# EAGLE library part TEXAS_INSTRUMENTS-ESD_SUPPRESSOR-TPD12S521_DBT_38 (library Module_ICs)
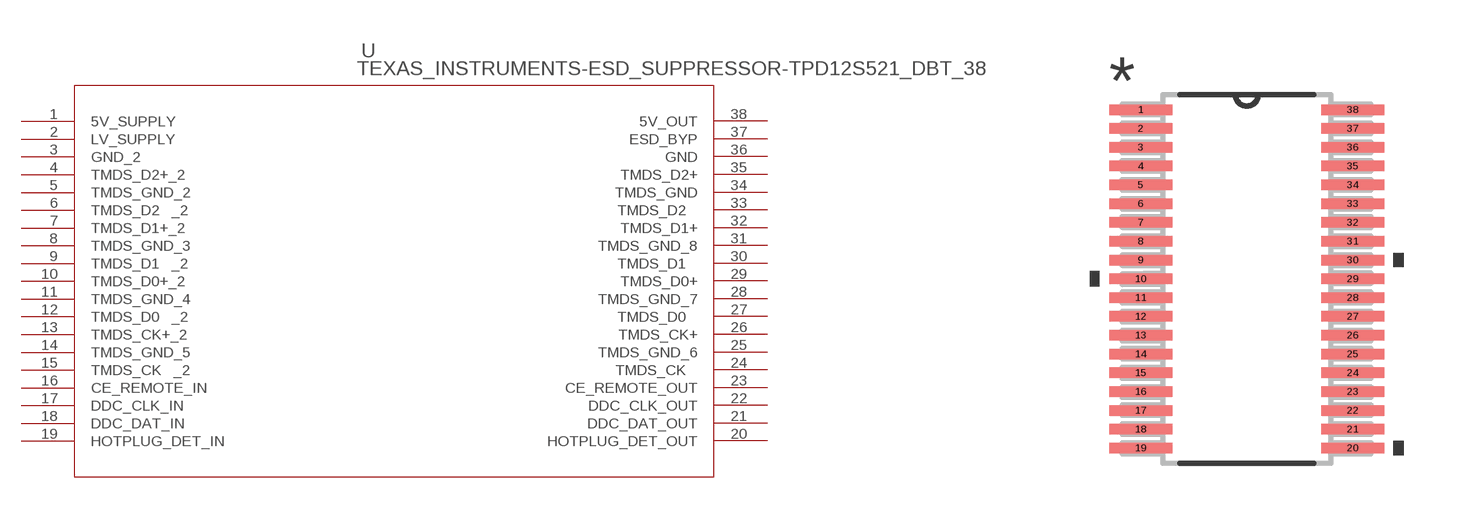
[diagram p33: symbol with the pads of TEXAS_INSTRUMENTS-ESD_SUPPRESSOR-TPD12S521_DBT_38; footprint TEXAS_INSTRUMENTS-ESD_SUPPRESSOR-TPD12S521_DBT_38]

Designator prefix U

## TEXAS_INSTRUMENTS-ESD_SUPPRESSOR-TPD12S521_DBT_38 (DATASHEETURL: httpwww.ti.comlitgpnTPD12S521; FAMILY_NAME: ESD Solution; GENERIC_PART_NUMBER: TPD12S521; INDUSTRY_STD_PKG_TYPE: TSSOP; MANUFACTURER: Texas Instruments; MANUFACTURER_PART_NUMBER: tpd12s521_dbt_38; PACKAGE_DESIGNATOR: DBT; PIN_COUNT: 38; VENDOR: Texas Instruments)  [TEXAS_INSTRUMENTS-ESD_SUPPRESSOR-TPD12S521_DBT_38]
1  5V_SUPPLY  pwr
2  LV_SUPPLY  pwr
3  GND_2  pwr
4  TMDS_D2+_2  pas
5  TMDS_GND_2  pwr
6  TMDS_D2_2  pas
7  TMDS_D1+_2  pas
8  TMDS_GND_3  pwr
9  TMDS_D1_2  pas
10  TMDS_D0+_2  pas
11  TMDS_GND_4  pwr
12  TMDS_D0_2  pas
13  TMDS_CK+_2  pas
14  TMDS_GND_5  pwr
15  TMDS_CK_2  pas
16  CE_REMOTE_IN  pas
17  DDC_CLK_IN  pas
18  DDC_DAT_IN  pas
19  HOTPLUG_DET_IN  pas
20  HOTPLUG_DET_OUT  pas
21  DDC_DAT_OUT  pas
22  DDC_CLK_OUT  pas
23  CE_REMOTE_OUT  pas
24  TMDS_CK  pas
25  TMDS_GND_6  pwr
26  TMDS_CK+  pas
27  TMDS_D0  pas
28  TMDS_GND_7  pwr
29  TMDS_D0+  pas
30  TMDS_D1  pas
31  TMDS_GND_8  pwr
32  TMDS_D1+  pas
33  TMDS_D2  pas
34  TMDS_GND  pwr
35  TMDS_D2+  pas
36  GND  pwr
37  ESD_BYP  pas
38  5V_OUT  pwr

## Footprint TEXAS_INSTRUMENTS-ESD_SUPPRESSOR-TPD12S521_DBT_38 (pad centres in mm)
smd 1.676 x 0.279: 1 -2.819,4.5; 2 -2.819,4; 3 -2.819,3.5; 4 -2.819,3; 5 -2.819,2.5; 6 -2.819,2; 7 -2.819,1.5; 8 -2.819,1; 9 -2.819,0.5; 10 -2.819,0; 11 -2.819,-0.5; 12 -2.819,-1; 13 -2.819,-1.5; 14 -2.819,-2; 15 -2.819,-2.5; 16 -2.819,-3; 17 -2.819,-3.5; 18 -2.819,-4; 19 -2.819,-4.5; 20 2.819,-4.5; 21 2.819,-4; 22 2.819,-3.5; 23 2.819,-3; 24 2.819,-2.5; 25 2.819,-2; 26 2.819,-1.5; 27 2.819,-1; 28 2.819,-0.5; 29 2.819,0; 30 2.819,0.5; 31 2.819,1; 32 2.819,1.5; 33 2.819,2; 34 2.819,2.5; 35 2.819,3; 36 2.819,3.5; 37 2.819,4; 38 2.819,4.5